# EAGLE library part LM358ADT (library LM358ADT)
LM358ADT, Dual Operational Amplifier 1.1MHz 5 to 28V, 8-Pin SO Source: Datasheet <http://www.st.com/st-web-ui/static/active/en/resource/technical/document/datasheet/CD00000464.pdf>
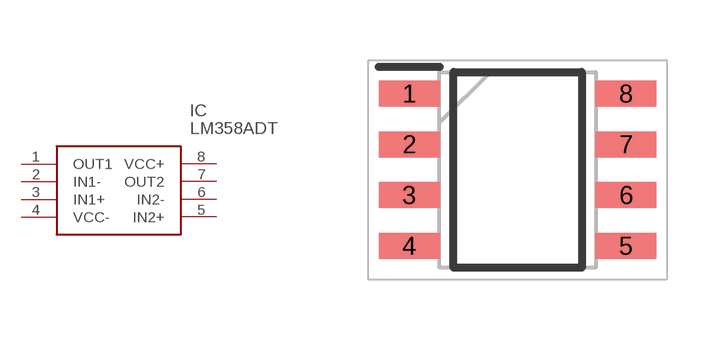
[diagram p0: symbol with the pads of SOIC127P600X175-8N; footprint SOIC127P600X175-8N]

Designator prefix IC

## LM358ADT (DESCRIPTION: LM358ADT, Dual Operational Amplifier 1.1MHz 5 to 28V, 8-Pin SO; MFR: STMicroelectronics; MFR-PN: LM358ADT; PACKAGE: SOIC-8)  [SOIC127P600X175-8N]
1  OUT1
2  IN1-
3  IN1+
4  VCC-
5  IN2+
6  IN2-
7  OUT2
8  VCC+

## Footprint SOIC127P600X175-8N (pad centres in mm)
SO8 2
smd 1.525 x 0.65: 1 -2.712,1.905; 2 -2.712,0.635; 3 -2.712,-0.635; 4 -2.712,-1.905; 5 2.712,-1.905; 6 2.712,-0.635; 7 2.712,0.635; 8 2.712,1.905